# Altium schematic symbol library Schlib1.SchLib: 27 symbols
Pins are listed as number, name and electrical type; pins without a type are passive.

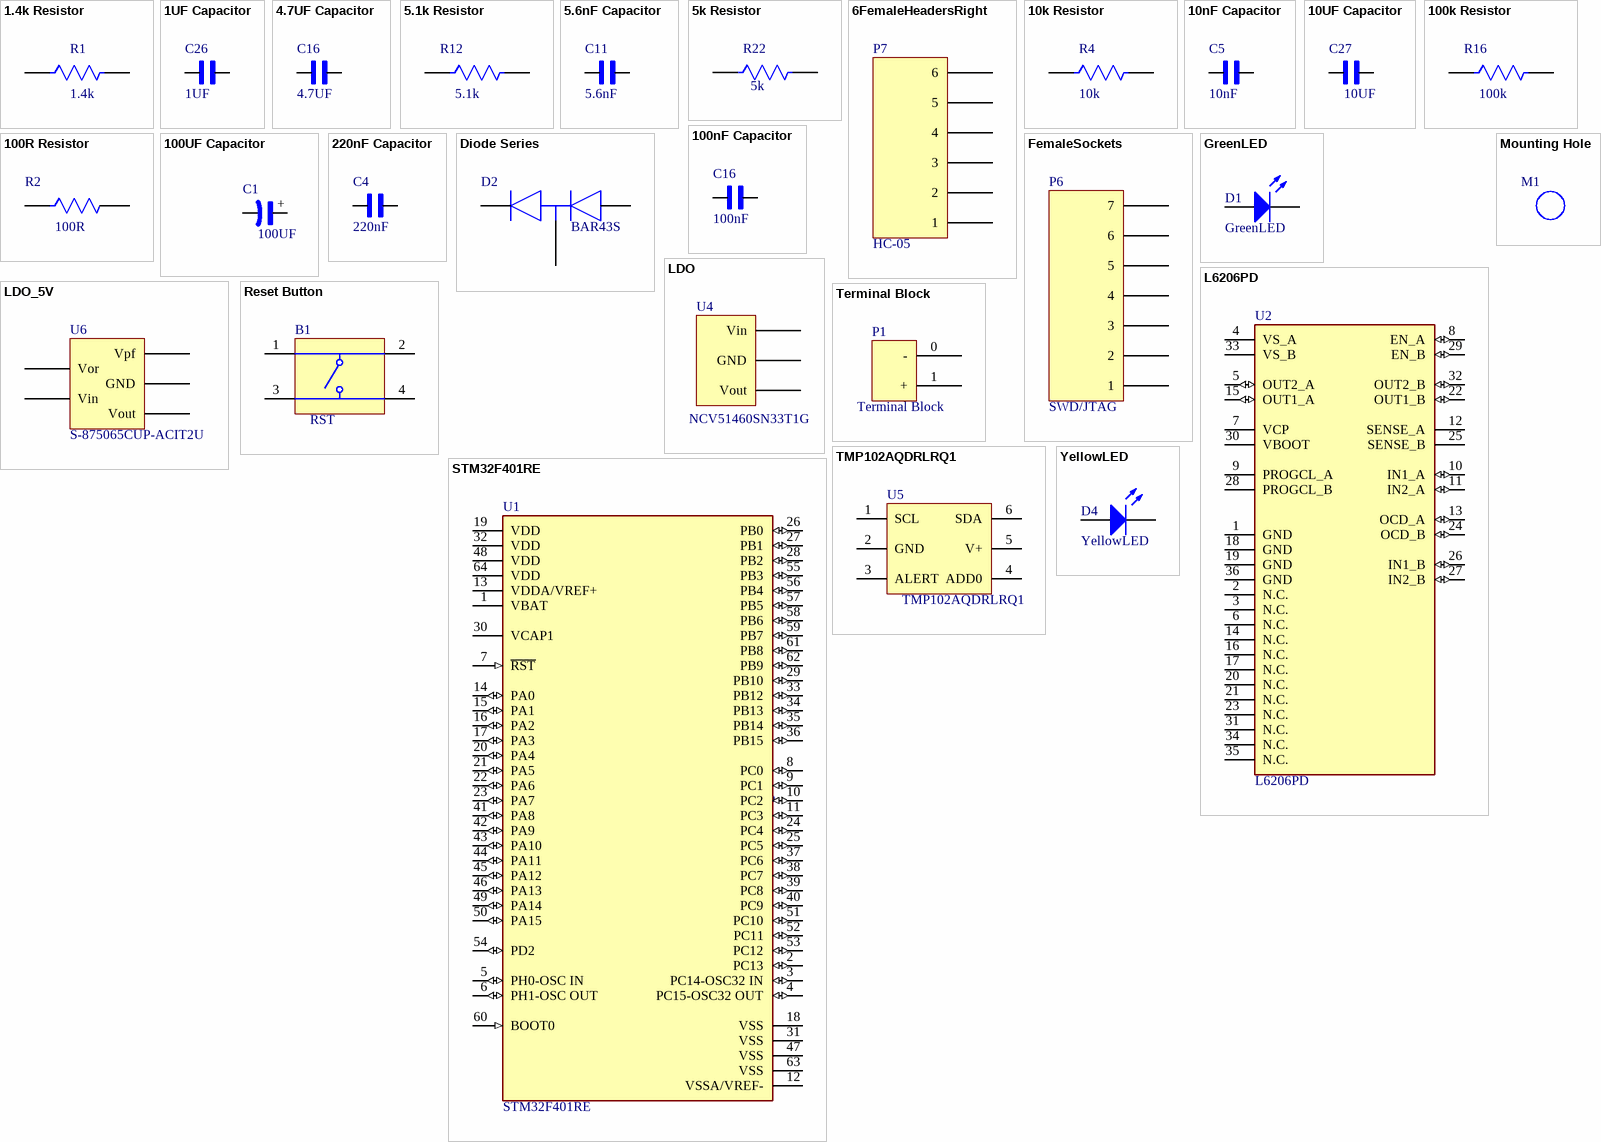
[diagram p0: symbols 1.4k Resistor to YellowLED]

## 1.4k Resistor
designator R1, comment 1.4k
RES SMD 14K OHM 0.1% 1/16W 0402; Manufacturer: Panasonic; Manufacturer Part Number: ERA-2AEB1402X; Resistance: 14kR; Power Rating: 63mW; Voltage Rating: 25V; Temperature Coefficient: 25ppm/°C; Voltage Rating (DC): 50V; Supplier 1: Digi-Key; RoHS: Yes; Category: Chip SMD Resistors; Stock 1: 3069; Pricing 1: 1=0.43000, 10=0.30500, 100=0.12220, 1000=0.06021, 2500=0.05579, 5000=0.05047 (USD); Mount: Surface Mount; Case/Package: 0402; Case Code (Metric): 1005; Case Code (Imperial): 0402; Contact Plating: Tin; Min Operating Temperature: -55°C; Max Operating Temperature: 155°C; Package Quantity: 10000; Packaging: Tape and Reel; Tolerance: 0.1%; Composition: Metal Film,Thin Film; Number of Terminations: 2; Max Power Dissipation: 63mW; Termination: SMD/SMT; Length: 0.039inch; Height: 0.016inch; Width: 0.5mm; Radiation Hardening: No; REACH SVHC: Unknown; Lead Free: Lead Free; ComponentLink1URL: https://datasheet.ciiva.com/9193/aoa0000ce26-9193279.pdf?src-supplier=Avnet; ComponentLink1Description: https://datasheet.ciiva.com/9193/aoa0000ce26-9193279.pdf?src-supplier=Avnet; Supplier Part Number 1: P14KDCCT-ND
footprint 0402 Resistor
pins: 1, 2

## 1UF Capacitor
designator C26, comment 1UF
Multilayer Ceramic Capacitors MLCC - SMD/SMT 1uF 6.3V X6S +/-10% 0402 Gen Purp; Manufacturer: Taiyo Yuden; Manufacturer Part Number: JMK105C6105KV-F; Tolerance: 10%; Supplier 1: Digi-Key; RoHS: Yes; Category: Ceramic Capacitors; Stock 1: 2218230; Pricing 1: 1=0.10000, 10=0.04200, 100=0.01860, 500=0.01328, 1000=0.01044, 2500=0.00949, 5000=0.00873 (USD); Mount: Surface Mount; Case/Package: 0402; Contact Plating: Tin; Case Code (Metric): 1005; Case Code (Imperial): 0402; Min Operating Temperature: -55°C; Max Operating Temperature: 105°C; Termination: SMD/SMT; Composition: Ceramic; Package Quantity: 10000; Packaging: Tape and Reel; Capacitance: 1uF; Voltage Rating: 6.3V; Voltage Rating (DC): 6.3V; Dielectric: X6S; Length: 1mm; Height: 0.5mm; Thickness: 0.022inch; Width: 0.02inch; Lead Free: Lead Free; Halogen Free: Halogen Free; ComponentLink1URL: https://datasheet.ciiva.com/30179/154jmk105c6105kv-f-30179507.pdf?src-supplier=Onlinecomponents.com; ComponentLink1Description: https://datasheet.ciiva.com/30179/154jmk105c6105kv-f-30179507.pdf?src-supplier=Onlinecomponents.com; ComponentLink2URL: https://datasheet.ciiva.com/24435/5jmk105c6105kv-f-24435453.pdf?src-supplier=Onlinecomponents.com; ComponentLink2Description: https://datasheet.ciiva.com/24435/5jmk105c6105kv-f-24435453.pdf?src-supplier=Onlinecomponents.com; ComponentLink3URL: https://datasheet.ciiva.com/18700/mlcc-all-e-18700341.pdf?src-supplier=Digi-Key; ComponentLink3Description: https://datasheet.ciiva.com/18700/mlcc-all-e-18700341.pdf?src-supplier=Digi-Key; ComponentLink4URL: https://datasheet.ciiva.com/18700/mlcc-all-e-18700342.pdf?src-supplier=Digi-Key; ComponentLink4Description: https://datasheet.ciiva.com/18700/mlcc-all-e-18700342.pdf?src-supplier=Digi-Key; ComponentLink5URL: https://datasheet.ciiva.com/18700/mlcc-all-e-18700343.pdf?src-supplier=Digi-Key; ComponentLink5Description: https://datasheet.ciiva.com/18700/mlcc-all-e-18700343.pdf?src-supplier=Digi-Key; Supplier Part Number 1: 587-3381-1-ND
footprint 0402 Capacitor
pins: 1, 2

## 4.7UF Capacitor
designator C16, comment 4.7UF
CAP CER 4.7UF 6.3V X5R 0402; Manufacturer: Murata; Manufacturer Part Number: GRM155R60J475ME47D; Tolerance: 20%; Supplier 1: Digi-Key; RoHS: Yes; Category: Ceramic Capacitors; Stock 1: 22068943; Pricing 1: 1=0.16000, 10=0.11600, 100=0.05450, 500=0.03822, 1000=0.03164, 2500=0.02944, 5000=0.02694 (USD); Mount: Surface Mount; Case/Package: 0402; Weight: 0.000212oz; Case Code (Metric): 1005; Case Code (Imperial): 0402; Contact Plating: Tin; Min Operating Temperature: -55°C; Max Operating Temperature: 85°C; Package Quantity: 10000; Capacitance: 4.7uF; Voltage Rating: 6.3V; Packaging: Tape and Reel; Dielectric: X5R; Termination: SMD/SMT; Voltage: 6.3V; Voltage Rating (DC): 6.3V; Length: 1mm; Height: 0.5mm; Width: 0.02inch; Thickness: 0.022inch; Depth: 0.5mm; REACH SVHC: No SVHC; Lead Free: Lead Free; ComponentLink1URL: https://datasheet.ciiva.com/6270/product-6270483.pdf?src-supplier=Digi-Key; ComponentLink1Description: https://datasheet.ciiva.com/6270/product-6270483.pdf?src-supplier=Digi-Key; ComponentLink2URL: https://datasheet.ciiva.com/6268/partnumbering-e-01-6268378.pdf?src-supplier=Digi-Key; ComponentLink2Description: https://datasheet.ciiva.com/6268/partnumbering-e-01-6268378.pdf?src-supplier=Digi-Key; ComponentLink3URL: https://datasheet.ciiva.com/46418/1769893-46418044.pdf?src-supplier=Element14; ComponentLink3Description: https://datasheet.ciiva.com/46418/1769893-46418044.pdf?src-supplier=Element14; ComponentLink4URL: https://datasheet.ciiva.com/46418/1769893-46418045.pdf?src-supplier=Element14; ComponentLink4Description: https://datasheet.ciiva.com/46418/1769893-46418045.pdf?src-supplier=Element14; ComponentLink5URL: https://datasheet.ciiva.com/6268/partnumbering-e-01-6268382.pdf?src-supplier=Digi-Key; ComponentLink5Description: https://datasheet.ciiva.com/6268/partnumbering-e-01-6268382.pdf?src-supplier=Digi-Key; Supplier Part Number 1: 490-5915-1-ND
footprint 0402 Capacitor
pins: 1, 2

## 5.1k Resistor
designator R12, comment 5.1k
PANASONIC - ERJ2RKF5101X - SMD Chip Resistor, 0402 [1005 Metric], 5.1 kohm, ERJ2R Series, 50 V, Thick Film, 100 mW; Manufacturer Part Number: ERJ-2RKF5101X; Resistance: 5.1kR; Tolerance: 1%; Power Rating: 100mW; Voltage Rating: 50V; Temperature Coefficient: 100ppm/°C; Supplier 1: Digi-Key; Manufacturer: Panasonic; RoHS: Yes; Category: Chip SMD Resistors; Stock 1: 1276231; Pricing 1: 1=0.10000, 10=0.04300, 100=0.01750, 1000=0.00787, 2500=0.00683, 5000=0.00564 (USD); Mount: Surface Mount; Case/Package: 0402; Weight: 2.8E-05oz; Case Code (Imperial): 0402; Case Code (Metric): 1005; Contact Plating: Tin; Min Operating Temperature: -55°C; Max Operating Temperature: 155°C; Packaging: Tape and Reel; Package Quantity: 10000; Composition: Thick Film; Termination: SMD/SMT; Number of Terminations: 2; Military Standard: Not; Max Power Dissipation: 100mW; Voltage Rating (DC): 50V; Length: 1mm; Height: 0.35mm; Width: 0.5mm; Depth: 0.5mm; REACH SVHC: No SVHC; Lead Free: Lead Free; ComponentLink1URL: https://datasheet.ciiva.com/11821/0900766b80f80784-11821351.pdf?src-supplier=RSComponents; ComponentLink1Description: https://datasheet.ciiva.com/11821/0900766b80f80784-11821351.pdf?src-supplier=RSComponents; ComponentLink2URL: https://datasheet.ciiva.com/16788/70260748-16788554.pdf?src-supplier=Allied+Electronics; ComponentLink2Description: https://datasheet.ciiva.com/16788/70260748-16788554.pdf?src-supplier=Allied+Electronics; ComponentLink3URL: https://datasheet.ciiva.com/16761/70260748-16761739.pdf?src-supplier=Allied+Electronics; ComponentLink3Description: https://datasheet.ciiva.com/16761/70260748-16761739.pdf?src-supplier=Allied+Electronics; ComponentLink4URL: https://datasheet.ciiva.com/9195/aoa0000ce2-9195580.pdf?src-supplier=Avnet; ComponentLink4Description: https://datasheet.ciiva.com/9195/aoa0000ce2-9195580.pdf?src-supplier=Avnet; ComponentLink5URL: https://datasheet.ciiva.com/43467/1678782-43467375.pdf?src-supplier=Farnell; ComponentLink5Description: https://datasheet.ciiva.com/43467/1678782-43467375.pdf?src-supplier=Farnell; Supplier Part Number 1: P5.10KLCT-ND
footprint 0402 Resistor
pins: 1, 2

## 5.6nF Capacitor
designator C11, comment 5.6nF
CAP CER 5600PF 25V X7R 0402; Manufacturer: Yageo; Manufacturer Part Number: CC0402KRX7R8BB562; Tolerance: 10%; Supplier 1: Digi-Key; RoHS: Yes; Category: Ceramic Capacitors; Stock 1: 20030; Pricing 1: 1=0.10000, 10=0.03600, 100=0.01620, 500=0.01156, 1000=0.00908, 2500=0.00825, 5000=0.00759 (USD); Mount: Surface Mount; Case/Package: 0402; Number of Pins: 2; Weight: 2.3E-05oz; Case Code (Imperial): 0402; Case Code (Metric): 1005; Min Operating Temperature: -55°C; Max Operating Temperature: 125°C; Voltage Rating: 25V; Capacitance: 5.6nF; Packaging: Tape and Reel; Voltage Rating (DC): 25V; Dielectric: X7R; Termination: SMD/SMT; Composition: Ceramic; Length: 0.039inch; Width: 0.02inch; Thickness: 0.022inch; Depth: 0.5mm; Lead Free: Lead Free; Halogen Free: Halogen Free; ComponentLink1URL: https://datasheet.ciiva.com/13264/upy-gphc-x7r-6-3v-to-50v-8-12304-13264955.pdf?src-supplier=Mouser; ComponentLink1Description: https://datasheet.ciiva.com/13264/upy-gphc-x7r-6-3v-to-50v-8-12304-13264955.pdf?src-supplier=Mouser; Supplier Part Number 1: 311-1718-1-ND
footprint 0402 Capacitor
pins: 1, 2

## 5k Resistor
designator R22, comment 5k
Res Thick Film 0805 5K Ohm 1% 1/8W ±100ppm/°C Molded SMD SMD Paper T/R; Manufacturer: Vishay Dale; Manufacturer Part Number: CRCW08055K00FKTA; Resistance: 5kR; Power Rating: 125mW; Voltage Rating: 150V; Supplier 1: Digi-Key; RoHS: Yes; Category: Chip SMD Resistors; Stock 1: 28646; Pricing 1: 1=0.13000, 10=0.11700, 100=0.04510, 1000=0.01984, 2500=0.01714 (USD); Case/Package: 0805; Number of Pins: 2; Weight: 0.000194oz; Case Code (Imperial): 0805; Case Code (Metric): 2012; Contact Plating: Tin,Lead; Min Operating Temperature: -55°C; Max Operating Temperature: 155°C; Tolerance: 1%; Packaging: Tape and Reel; Package Quantity: 5000; Resistor Type: Thick Film; Termination: SMD/SMT; Number of Terminations: 2; Temperature Coefficient: 100ppm/°C; Max Power Dissipation: 125mW; Voltage Rating (DC): 150V; Features: Automotive AEC-Q200; Length: 0.079inch; Width: 1.25mm; Height: 0.02inch; REACH SVHC: Unknown; Lead Free: Contains Lead; ComponentLink1URL: https://datasheet.ciiva.com/7112/1747955-7112385.pdf?src-supplier=Newark; ComponentLink1Description: https://datasheet.ciiva.com/7112/1747955-7112385.pdf?src-supplier=Newark; ComponentLink2URL: https://datasheet.ciiva.com/9069/dcrcw-9069004.pdf?src-supplier=Avnet; ComponentLink2Description: https://datasheet.ciiva.com/9069/dcrcw-9069004.pdf?src-supplier=Avnet; ComponentLink3URL: https://datasheet.ciiva.com/28561/1747955-28561708.pdf?src-supplier=Element14; ComponentLink3Description: https://datasheet.ciiva.com/28561/1747955-28561708.pdf?src-supplier=Element14; Supplier Part Number 1: 541-4321-1-ND
footprint 0805 Resistor
pins: 1, 2

## 6FemaleHeadersRight
designator P7, comment HC-05
CONN HDR 6POS 0.1 TIN PCB R/A; Manufacturer: Sullins; Manufacturer Part Number: PPTC061LGBN-RC; Number of Positions: 6; Connector Type: Header,Socket; Pitch: 0.1inch; Supplier 1: Digi-Key; RoHS: Yes; Category: Connectors; Stock 1: 8367; Pricing 1: 1=0.71000, 10=0.66400, 100=0.50920, 500=0.44280, 1000=0.36531, 5000=0.32103, 10000=0.31980 (USD); Mount: Through Hole; Contact Material: Bronze; Housing Color: Black; Color: Black; Contact Plating: Tin; Housing Material: Plastic; Termination: Solder; Package Quantity: 1000; Number of Rows: 1; Packaging: Bulk; Length: 15.7mm; Height: 2.4mm; Width: 8.5mm; Lead Free: Lead Free; ComponentLink1URL: https://media.digikey.com/pdf/Data%20Sheets/Sullins%20PDFs/Female_Headers.100_DS.pdf?src-supplier=Digi-Key; ComponentLink1Description: https://media.digikey.com/pdf/Data%20Sheets/Sullins%20PDFs/Female_Headers.100_DS.pdf?src-supplier=Digi-Key; Supplier Part Number 1: S5442-ND
footprint 6FemaleSocketHeaders
pins: 1, 2, 3, 4, 5, 6

## 10k Resistor
designator R4, comment 10k
Res Thin Film 0402 10K Ohm 0.5% 0.063W(1/16W) ±25ppm/C Molded SMD Automotive Punched T/R; Manufacturer: Panasonic; Manufacturer Part Number: ERA-2AED103X; Power Rating: 63mW; Voltage Rating: 25V; Resistance: 10kR; Temperature Coefficient: 25ppm/°C; Supplier 1: Digi-Key; RoHS: Yes; Category: Chip SMD Resistors; Stock 1: 133108; Pricing 1: 1=0.21000, 10=0.17900, 100=0.07000, 1000=0.02930, 2500=0.02686, 5000=0.02442 (USD); Mount: Surface Mount; Case/Package: 0402; Weight: 2.8E-05oz; Case Code (Imperial): 0402; Case Code (Metric): 1005; Contact Plating: Tin; Min Operating Temperature: -55°C; Max Operating Temperature: 155°C; Tolerance: 0.5%; Packaging: Tape and Reel; Package Quantity: 10000; Termination: SMD/SMT; Composition: Metal Film,Thin Film; Number of Terminations: 2; Military Standard: Not; Max Power Dissipation: 63mW; Voltage Rating (DC): 25V; Length: 1mm; Height: 0.016inch; Width: 0.5mm; Depth: 0.5mm; REACH SVHC: No SVHC; Lead Free: Lead Free; ComponentLink1URL: https://datasheet.ciiva.com/30240/54aoa0000ce26-30240474.pdf?src-supplier=Onlinecomponents.com; ComponentLink1Description: https://datasheet.ciiva.com/30240/54aoa0000ce26-30240474.pdf?src-supplier=Onlinecomponents.com; ComponentLink2URL: https://datasheet.ciiva.com/46378/1776116-46378235.pdf?src-supplier=Element14; ComponentLink2Description: https://datasheet.ciiva.com/46378/1776116-46378235.pdf?src-supplier=Element14; ComponentLink3URL: https://datasheet.ciiva.com/7830/1776116-7830919.pdf?src-supplier=Element14; ComponentLink3Description: https://datasheet.ciiva.com/7830/1776116-7830919.pdf?src-supplier=Element14; ComponentLink4URL: https://datasheet.ciiva.com/43470/1776116-43470437.pdf?src-supplier=Farnell; ComponentLink4Description: https://datasheet.ciiva.com/43470/1776116-43470437.pdf?src-supplier=Farnell; Supplier Part Number 1: P10KDECT-ND
footprint 0402 Resistor
pins: 1, 2

## 10nF Capacitor
designator C5, comment 10nF
CAP CER 10000PF 50V X7R 0402; Manufacturer: KEMET; Manufacturer Part Number: C0402C103M5RACTU; Dielectric Material: Ceramic; Tolerance: 20%; Dissipation Factor: 2.5%; Supplier 1: Digi-Key; RoHS: Yes; Category: Ceramic Capacitors; Stock 1: 104917; Pricing 1: 1=0.10000, 10=0.02200, 100=0.00990, 500=0.00708, 1000=0.00557, 2500=0.00506, 5000=0.00466 (USD); Mount: Surface Mount; Case/Package: 0402; Case Code (Metric): 1005; Case Code (Imperial): 0402; Min Operating Temperature: -55°C; Max Operating Temperature: 125°C; Capacitance: 10nF; Voltage Rating: 50V; Packaging: Tape and Reel; Package Quantity: 10000; Voltage Rating (DC): 50V; Dielectric: X7R; Termination: SMD/SMT; Length: 1mm; Height: 0.5mm; Width: 0.02inch; Thickness: 0.022inch; Lead Pitch: 0.3mm; Depth: 0.5mm; Radiation Hardening: No; ComponentLink1URL: https://datasheet.ciiva.com/18192/getdatasheetpartid-439437-18192407.pdf?src-supplier=Verical; ComponentLink1Description: https://datasheet.ciiva.com/18192/getdatasheetpartid-439437-18192407.pdf?src-supplier=Verical; ComponentLink2URL: https://datasheet.ciiva.com/5414/kem-c1002-x7r-smd-5414682.pdf?src-supplier=Mouser; ComponentLink2Description: https://datasheet.ciiva.com/5414/kem-c1002-x7r-smd-5414682.pdf?src-supplier=Mouser; Supplier Part Number 1: 399-7760-1-ND
footprint 0402 Capacitor
pins: 1, 2

## 10UF Capacitor
designator C27, comment 10UF
Ceramic capacitor SMD 0805 10 µF 16 V 10 %; Manufacturer: Samsung; Manufacturer Part Number: CL21A106KOQNNNG; Tolerance: 10%; Dielectric: X5R; Voltage: 16V; Supplier 1: Digi-Key; RoHS: Yes; Category: Ceramic Capacitors; Stock 1: 97074; Pricing 1: 1=0.11000, 10=0.07600, 50=0.04340, 100=0.03590, 500=0.02516, 1000=0.02083 (USD); Mount: Surface Mount; Case/Package: 0805; Case Code (Imperial): 0805; Case Code (Metric): 2012; Material: Ceramic; Min Operating Temperature: -55°C; Max Operating Temperature: 85°C; Capacitance: 10uF; Packaging: Tape and Reel; Package Quantity: 3000; Voltage Rating: 16V; Length: 2mm; Height: 1.25mm; Depth: 1.25mm; Width: 0.049inch; Thickness: 0.053inch; ComponentLink1URL: https://datasheet.ciiva.com/25730/cl21a106koqnnng-25730226.pdf?src-supplier=Digi-Key; ComponentLink1Description: https://datasheet.ciiva.com/25730/cl21a106koqnnng-25730226.pdf?src-supplier=Digi-Key; ComponentLink2URL: https://datasheet.ciiva.com/29199/454932-da-01-en-vs-kondensator-0805-29199423.pdf?src-supplier=Conrad; ComponentLink2Description: https://datasheet.ciiva.com/29199/454932-da-01-en-vs-kondensator-0805-29199423.pdf?src-supplier=Conrad; Supplier Part Number 1: 1276-6455-1-ND
footprint 0805 Capacitor
pins: 1, 2

## 100k Resistor
designator R16, comment 100k
YAGEO         RC0805FR-07100KL            RES, THICK FILM, 100K, 1%, 0.125W, 0805, REEL; Resistance: 100kR; Power Rating: 125mW; Temperature Coefficient: 100ppm/°C; Voltage Rating: 150V; Supplier 1: Digi-Key; Manufacturer: Yageo; Manufacturer Part Number: RC0805FR-07100KL; RoHS: Yes; Category: Chip SMD Resistors; Stock 1: 4441686; Pricing 1: 1=0.10000, 10=0.04000, 100=0.01630, 1000=0.00731, 2500=0.00635 (USD); Case/Package: 0805; Number of Pins: 2; Case Code (Metric): 2012; Case Code (Imperial): 0805; Min Operating Temperature: -55°C; Max Operating Temperature: 155°C; Tolerance: 1%; Packaging: Tape and Reel; Voltage Rating (DC): 150V; Package Quantity: 1; Composition: Thick Film; Number of Terminations: 2; Termination: SMD/SMT; Military Standard: Not; Max Power Dissipation: 125mW; Features: Moisture Resistant; Length: 2mm; Height: 0.024inch; Width: 0.049inch; Depth: 1.25mm; Lead Pitch: 0.4mm; REACH SVHC: Unknown; Lead Free: Lead Free; ComponentLink1URL: https://datasheet.ciiva.com/11808/0900766b8106beab-11808858.pdf?src-supplier=RSComponents; ComponentLink1Description: https://datasheet.ciiva.com/11808/0900766b8106beab-11808858.pdf?src-supplier=RSComponents; ComponentLink2URL: https://datasheet.ciiva.com/2457/pyu-r-int-thick-7-2457017.pdf?src-supplier=Digi-Key; ComponentLink2Description: https://datasheet.ciiva.com/2457/pyu-r-int-thick-7-2457017.pdf?src-supplier=Digi-Key; ComponentLink3URL: https://datasheet.ciiva.com/12667/rc0805-12667001.pdf?src-supplier=Mouser; ComponentLink3Description: https://datasheet.ciiva.com/12667/rc0805-12667001.pdf?src-supplier=Mouser; ComponentLink4URL: https://datasheet.ciiva.com/2457/pyu-r-int-thick-7-2457018.pdf?src-supplier=Digi-Key; ComponentLink4Description: https://datasheet.ciiva.com/2457/pyu-r-int-thick-7-2457018.pdf?src-supplier=Digi-Key; ComponentLink5URL: https://datasheet.ciiva.com/16747/rc0805-16747226.pdf?src-supplier=Future+Electronics; ComponentLink5Description: https://datasheet.ciiva.com/16747/rc0805-16747226.pdf?src-supplier=Future+Electronics; ComponentLink6URL: https://datasheet.ciiva.com/2457/pyu-r-int-thick-7-2457019.pdf?src-supplier=Digi-Key; ComponentLink6Description: https://datasheet.ciiva.com/2457/pyu-r-int-thick-7-2457019.pdf?src-supplier=Digi-Key; ComponentLink7URL: https://datasheet.ciiva.com/7660/38627-7660796.pdf?src-supplier=Element14; ComponentLink7Description: https://datasheet.ciiva.com/7660/38627-7660796.pdf?src-supplier=Element14; ComponentLink8URL: https://datasheet.ciiva.com/7941/1697719-7941676.pdf?src-supplier=Element14; ComponentLink8Description: https://datasheet.ciiva.com/7941/1697719-7941676.pdf?src-supplier=Element14; ComponentLink9URL: https://datasheet.ciiva.com/7941/1686128-7941677.pdf?src-supplier=Element14; ComponentLink9Description: https://datasheet.ciiva.com/7941/1686128-7941677.pdf?src-supplier=Element14; ComponentLink10URL: https://datasheet.ciiva.com/7941/1697719-7941678.pdf?src-supplier=Element14; ComponentLink10Description: https://datasheet.ciiva.com/7941/1697719-7941678.pdf?src-supplier=Element14; ComponentLink11URL: https://datasheet.ciiva.com/22747/444164-22747534.pdf?src-supplier=Element14; ComponentLink11Description: https://datasheet.ciiva.com/22747/444164-22747534.pdf?src-supplier=Element14; Supplier Part Number 1: 311-100KCRCT-ND
footprint 0805 Resistor
pins: 1, 2

## 100nF Capacitor
designator C16, comment 100nF
CAP CER 0.1UF 16V X7R 0402; Manufacturer: Murata; Manufacturer Part Number: GRM155R71C104KA88J; Tolerance: 10%; Supplier 1: Digi-Key; RoHS: Yes; Category: Ceramic Capacitors; Stock 1: 24888178; Pricing 1: 1=0.10000, 10=0.03800, 100=0.01680, 500=0.01198, 1000=0.00941, 2500=0.00855, 5000=0.00787 (USD); Mount: Surface Mount; Case/Package: 0402; Case Code (Metric): 1005; Case Code (Imperial): 0402; Min Operating Temperature: -55°C; Max Operating Temperature: 125°C; Package Quantity: 1; Capacitance: 100nF; Voltage Rating: 16V; Packaging: Tape and Reel; Dielectric: X7R; Voltage Rating (DC): 16V; Termination: SMD/SMT; Voltage: 16V; Length: 1mm; Height: 0.5mm; Width: 0.02inch; Thickness: 0.022inch; Depth: 0.5mm; Radiation Hardening: No; REACH SVHC: No SVHC; Lead Free: Lead Free; ComponentLink1URL: https://datasheet.ciiva.com/6271/product-6271168.pdf?src-supplier=Digi-Key; ComponentLink1Description: https://datasheet.ciiva.com/6271/product-6271168.pdf?src-supplier=Digi-Key; ComponentLink2URL: https://datasheet.ciiva.com/6271/grm155r71c104ka88-01-6271231.pdf?src-supplier=Digi-Key; ComponentLink2Description: https://datasheet.ciiva.com/6271/grm155r71c104ka88-01-6271231.pdf?src-supplier=Digi-Key; Supplier Part Number 1: 490-6328-1-ND
footprint 0402 Capacitor
pins: 1, 2

## 100R Resistor
designator R2, comment 100R
RESISTOR, SURGE, 0805, 1%, 100R; Manufacturer: Panasonic; Manufacturer Part Number: ERJ-P06F1000V; Power Rating: 500mW; Voltage Rating: 150V; Temperature Coefficient: 100ppm/°C; Supplier 1: Digi-Key; RoHS: Yes; Category: Chip SMD Resistors; Stock 1: 401308; Pricing 1: 1=0.17000, 10=0.14800, 100=0.05770, 1000=0.02416, 2500=0.02214 (USD); Mount: Surface Mount; Case/Package: 0805; Number of Pins: 2; Contact Plating: Tin; Case Code (Imperial): 0805; Case Code (Metric): 2012; Min Operating Temperature: -55°C; Max Operating Temperature: 155°C; Resistance: 100R; Tolerance: 1%; Packaging: Tape and Reel; Package Quantity: 5000; Termination: SMD/SMT; Military Standard: Not; Composition: Thick Film; Voltage Rating (DC): 150V; Length: 2mm; Height: 0.6mm; Width: 1.2mm; Depth: 1.25mm; Radiation Hardening: No; REACH SVHC: No SVHC; ComponentLink1URL: https://datasheet.ciiva.com/11817/0900766b812cb812-11817182.pdf?src-supplier=RSComponents; ComponentLink1Description: https://datasheet.ciiva.com/11817/0900766b812cb812-11817182.pdf?src-supplier=RSComponents; ComponentLink2URL: https://datasheet.ciiva.com/24070/aoa0000ce4-64075-24070038.pdf?src-supplier=Mouser; ComponentLink2Description: https://datasheet.ciiva.com/24070/aoa0000ce4-64075-24070038.pdf?src-supplier=Mouser; ComponentLink3URL: https://datasheet.ciiva.com/17208/aoa0000ce4-17208007.pdf?src-supplier=Avnet+Europe; ComponentLink3Description: https://datasheet.ciiva.com/17208/aoa0000ce4-17208007.pdf?src-supplier=Avnet+Europe; ComponentLink4URL: https://datasheet.ciiva.com/30103/aoa0000ce4-30103141.pdf?src-supplier=Onlinecomponents.com; ComponentLink4Description: https://datasheet.ciiva.com/30103/aoa0000ce4-30103141.pdf?src-supplier=Onlinecomponents.com; ComponentLink5URL: https://datasheet.ciiva.com/48426/erjp-series-eng-tds-48426777.pdf?src-supplier=Distrelec; ComponentLink5Description: https://datasheet.ciiva.com/48426/erjp-series-eng-tds-48426777.pdf?src-supplier=Distrelec; ComponentLink6URL: https://datasheet.ciiva.com/9186/aoa0000ce4-9186922.pdf?src-supplier=Avnet; ComponentLink6Description: https://datasheet.ciiva.com/9186/aoa0000ce4-9186922.pdf?src-supplier=Avnet; ComponentLink7URL: https://datasheet.ciiva.com/22758/1801181-22758282.pdf?src-supplier=Farnell; ComponentLink7Description: https://datasheet.ciiva.com/22758/1801181-22758282.pdf?src-supplier=Farnell; ComponentLink8URL: https://datasheet.ciiva.com/22758/1801181-22758283.pdf?src-supplier=Farnell; ComponentLink8Description: https://datasheet.ciiva.com/22758/1801181-22758283.pdf?src-supplier=Farnell; ComponentLink9URL: https://datasheet.ciiva.com/7830/1790600-7830815.pdf?src-supplier=Element14; ComponentLink9Description: https://datasheet.ciiva.com/7830/1790600-7830815.pdf?src-supplier=Element14; Supplier Part Number 1: P16057CT-ND
footprint 0805 Resistor
pins: 1, 2

## 100UF Capacitor
designator C1, comment 100UF
Nichicon Aluminium Electrolytic Capacitor 100F 63 V 10mm Through Hole series VZ lifetime 1000h; Manufacturer Part Number: UVZ1J101MPD1TD; Voltage Rating (DC): 63V; Ripple Current: 215mA; Tolerance: 20%; Leakage Current: 189uA; Life (Hours): 1000Hour; Lead/Base Style: Straight; Dissipation Factor: 0.1%; Lead Diameter: 0.6mm; Supplier 1: Digi-Key; Manufacturer: Nichicon; RoHS: Yes; Category: Aluminum Electrolytic Capacitors; Stock 1: 4350; Pricing 1: 1=0.42000, 10=0.29000, 100=0.17420 (USD); Mount: Through Hole,PCB; Case/Package: Radial; Min Operating Temperature: -55°C; Max Operating Temperature: 105°C; Capacitance: 100uF; Voltage Rating: 63V; Termination: Radial; Package Quantity: 500; Packaging: Tape and Reel; Voltage: 63V; Diameter: 10mm; Length: 12.5mm; Height: 12.5mm; Lead Pitch: 5mm; Height - Seated (Max): 0.551inch; Lead Free: Lead Free; REACH SVHC: No SVHC; ComponentLink1URL: https://datasheet.ciiva.com/46393/1909357-46393465.pdf?src-supplier=Element14; ComponentLink1Description: https://datasheet.ciiva.com/46393/1909357-46393465.pdf?src-supplier=Element14; ComponentLink2URL: https://datasheet.ciiva.com/7907/e-vz-7907564.pdf?src-supplier=Element14; ComponentLink2Description: https://datasheet.ciiva.com/7907/e-vz-7907564.pdf?src-supplier=Element14; ComponentLink3URL: https://datasheet.ciiva.com/29546/e-vz-29546636.pdf?src-supplier=Digi-Key; ComponentLink3Description: https://datasheet.ciiva.com/29546/e-vz-29546636.pdf?src-supplier=Digi-Key; ComponentLink4URL: https://datasheet.ciiva.com/29546/e-vz-29546635.pdf?src-supplier=Digi-Key; ComponentLink4Description: https://datasheet.ciiva.com/29546/e-vz-29546635.pdf?src-supplier=Digi-Key; Supplier Part Number 1: 493-13479-1-ND
footprint 100UF
pins: 1, +

## 220nF Capacitor
designator C4, comment 220nF
CAP CER 0805 220NF 100V X7R; Manufacturer: KEMET; Manufacturer Part Number: C0805C224K1RECAUTO; Tolerance: 10%; Supplier 1: Digi-Key; RoHS: No; Category: Ceramic Capacitors; Stock 1: 6983; Pricing 1: 1=0.30000, 10=0.20400, 100=0.11580, 500=0.08172, 1000=0.07151 (USD); Mount: Surface Mount; Case/Package: 0805; Min Operating Temperature: -55°C; Max Operating Temperature: 125°C; Packaging: Cut Tape; Capacitance: 220nF; Voltage Rating: 100V; Ratings: AEC-Q200; ComponentLink1URL: https://api.kemet.com/component-edge/download/datasheet/C0805C224K1RECAUTO.pdf?src-supplier=Digi-Key; ComponentLink1Description: https://api.kemet.com/component-edge/download/datasheet/C0805C224K1RECAUTO.pdf?src-supplier=Digi-Key; Supplier Part Number 1: 399-17890-1-ND
footprint 0805 Capacitor
pins: 1, 2

## Diode Series
designator D2, comment BAR43S
STMICROELECTRONICS - BAR43SFILM - Small Signal Schottky Diode, Dual Series, 30 V, 100 mA, 330 mV, 750 mA, 150 C RoHS Compliant: Yes; Max Surge Current: 750mA; Forward Voltage: 1V; Forward Current: 100mA; Peak Reverse Current: 500nA; Recovery Time: 5ns; Max Repetitive Reverse Voltage (Vrrm): 30V; Power Dissipation: 250mW; Capacitance: 7pF; Supplier 1: Digi-Key; Manufacturer: STMicroelectronics; Manufacturer Part Number: BAR43SFILM; RoHS: Yes; Category: Rectifier Diodes; Stock 1: 25965; Pricing 1: 1=0.37000, 10=0.29900, 25=0.25040, 100=0.12230, 250=0.12036, 500=0.10202, 1000=0.07089 (USD); Mount: Surface Mount; Case/Package: SOT-23; Number of Pins: 3; Weight: 0.01lb; Min Operating Temperature: -65°C; Max Operating Temperature: 150°C; Packaging: Tape and Reel; Package Quantity: 3000; Max Reverse Leakage Current: 500nA; Average Rectified Current: 100mA; Reverse Recovery Time: 5ns; Peak Non-Repetitive Surge Current: 750mA; Max Forward Surge Current (Ifsm): 750mA; Termination: SMD/SMT; Element Configuration: Dual; Current Rating: 100mA; Voltage Rating (DC): 30V; Max Reverse Voltage (DC): 30V; Length: 2.9mm; Height: 0.95mm; Width: 3.05mm; Radiation Hardening: No; REACH SVHC: No SVHC; Lead Free: Lead Free; ComponentLink1URL: https://datasheet.ciiva.com/1177/1700360-1177600.pdf?src-supplier=Element14; ComponentLink1Description: https://datasheet.ciiva.com/1177/1700360-1177600.pdf?src-supplier=Element14; ComponentLink2URL: https://datasheet.ciiva.com/4714/cd00000764-105363-4714418.pdf?src-supplier=Mouser; ComponentLink2Description: https://datasheet.ciiva.com/4714/cd00000764-105363-4714418.pdf?src-supplier=Mouser; ComponentLink3URL: https://datasheet.ciiva.com/34301/924342-34301780.pdf?src-supplier=Jameco; ComponentLink3Description: https://datasheet.ciiva.com/34301/924342-34301780.pdf?src-supplier=Jameco; ComponentLink4URL: https://datasheet.ciiva.com/905/cd00000764-905875.pdf?src-supplier=Digi-Key; ComponentLink4Description: https://datasheet.ciiva.com/905/cd00000764-905875.pdf?src-supplier=Digi-Key; ComponentLink5URL: https://datasheet.ciiva.com/905/cd00000764-905876.pdf?src-supplier=Digi-Key; ComponentLink5Description: https://datasheet.ciiva.com/905/cd00000764-905876.pdf?src-supplier=Digi-Key; ComponentLink6URL: https://datasheet.ciiva.com/905/cd00000764-905877.pdf?src-supplier=Digi-Key; ComponentLink6Description: https://datasheet.ciiva.com/905/cd00000764-905877.pdf?src-supplier=Digi-Key; ComponentLink7URL: https://datasheet.ciiva.com/7964/1700360-7964102.pdf?src-supplier=Element14; ComponentLink7Description: https://datasheet.ciiva.com/7964/1700360-7964102.pdf?src-supplier=Element14; ComponentLink8URL: https://datasheet.ciiva.com/1200/1700360-1200008.pdf?src-supplier=Farnell; ComponentLink8Description: https://datasheet.ciiva.com/1200/1700360-1200008.pdf?src-supplier=Farnell; ComponentLink9URL: https://datasheet.ciiva.com/1199/1700360-1199962.pdf?src-supplier=Farnell; ComponentLink9Description: https://datasheet.ciiva.com/1199/1700360-1199962.pdf?src-supplier=Farnell; ComponentLink10URL: https://datasheet.ciiva.com/15144/getdatasheetpartid-39351-15144075.pdf?src-supplier=Verical; ComponentLink10Description: https://datasheet.ciiva.com/15144/getdatasheetpartid-39351-15144075.pdf?src-supplier=Verical; ComponentLink11URL: https://datasheet.ciiva.com/16226/cd00000764-16226780.pdf?src-supplier=Future+Electronics; ComponentLink11Description: https://datasheet.ciiva.com/16226/cd00000764-16226780.pdf?src-supplier=Future+Electronics; ComponentLink12URL: https://datasheet.ciiva.com/27746/47-2902e-27746700.pdf?src-supplier=Rapid+Electronics; ComponentLink12Description: https://datasheet.ciiva.com/27746/47-2902e-27746700.pdf?src-supplier=Rapid+Electronics; Supplier Part Number 1: 497-2515-1-ND
footprint Double Diode
pins: 1 A2, 2 K1, 3

## FemaleSockets
designator P6, comment SWD/JTAG
CONN RCPT .100" 7POS TIN PCB; Manufacturer: Samtec; Manufacturer Part Number: SSA-107-S-T; Gender: Female; Number of Positions: 7; Max Current Rating: 1A; Connector Type: Receptacle; Contact Resistance: 10mR; Max Voltage Rating (AC): 1kV; Pitch: 2.54mm; Supplier 1: Digi-Key; RoHS: Yes; Category: Connectors; Stock 1: 63; Pricing 1: 1=0.73000, 10=0.68500, 25=0.61680, 50=0.54820, 100=0.52530, 250=0.47960, 500=0.45676 (USD); Mount: Through Hole; Housing Color: Black; Housing Material: Polyethylene; Color: Black; Contact Plating: Tin; Contact Material: Bronze; Min Operating Temperature: -55°C; Max Operating Temperature: 105°C; Termination: Solder; Number of Contacts: 7; Package Quantity: 1; Number of Rows: 1; Packaging: Bulk; Orientation: Straight; Length: 17.78mm; Width: 2.54mm; Depth: 2.54mm; Radiation Hardening: No; Lead Free: Lead Free; Flammability Rating: UL94 V-0; ComponentLink1URL: https://datasheet.ciiva.com/413/ssas-mkt-413352.pdf?src-supplier=Digi-Key; ComponentLink1Description: https://datasheet.ciiva.com/413/ssas-mkt-413352.pdf?src-supplier=Digi-Key; ComponentLink2URL: https://datasheet.ciiva.com/10323/ssa-10323769.pdf?src-supplier=Avnet; ComponentLink2Description: https://datasheet.ciiva.com/10323/ssa-10323769.pdf?src-supplier=Avnet; ComponentLink3URL: https://datasheet.ciiva.com/26825/getdatasheetpartid-51286-26825370.pdf?src-supplier=Verical; ComponentLink3Description: https://datasheet.ciiva.com/26825/getdatasheetpartid-51286-26825370.pdf?src-supplier=Verical; ComponentLink4URL: https://datasheet.ciiva.com/16720/ssa-16720191.pdf?src-supplier=Avnet+Europe; ComponentLink4Description: https://datasheet.ciiva.com/16720/ssa-16720191.pdf?src-supplier=Avnet+Europe; Supplier Part Number 1: SAM1122-07-ND
footprint FemaleSocketHeaders
pins: 1, 2, 3, 4, 5, 6, 7

## GreenLED
designator D1
LED GREEN CLEAR SMD; Manufacturer: Lumex; Manufacturer Part Number: SML-LXFP0603SUGCTR; Lens Color: Colorless; Power Rating: 30mW; Reverse Voltage (DC): 5V; Wavelength: 574nm; Test Current: 5mA; Forward Voltage: 2V; Luminous Intensity: 13mcd; Viewing Angle: 130°; Lens Style: Rectangular; Supplier 1: Digi-Key; RoHS: Yes; Category: LEDs; Stock 1: 9865; Pricing 1: 1=0.43000, 10=0.30000, 100=0.17500, 500=0.12000, 1000=0.10000 (USD); Mount: Surface Mount; Case/Package: 0603; Case Code (Imperial): 0603; Color: Green; Case Code (Metric): 1608; Min Operating Temperature: -40°C; Max Operating Temperature: 85°C; Lens Transparency: Clear; Illumination Color: Green; Forward Current: 5mA; Packaging: Tape and Reel; Package Quantity: 3000; Length: 1.6mm; Height: 0.2mm; Width: 0.8mm; ComponentLink1URL: https://datasheet.ciiva.com/24152/sml-lxfp0603sugctr-272463-24152468.pdf?src-supplier=Mouser; ComponentLink1Description: https://datasheet.ciiva.com/24152/sml-lxfp0603sugctr-272463-24152468.pdf?src-supplier=Mouser; ComponentLink2URL: https://datasheet.ciiva.com/29559/sml-lxfp0603sugctr-29559740.pdf?src-supplier=Digi-Key; ComponentLink2Description: https://datasheet.ciiva.com/29559/sml-lxfp0603sugctr-29559740.pdf?src-supplier=Digi-Key; Supplier Part Number 1: 67-2222-1-ND
footprint LED
pins: 1 A, 2 K

## L6206PD
designator U2  Supplier Part Number 1: 497-5341-5-ND
Bridge Driver IC PowerSO-36, L6206PD, ST; Manufacturer: STMicroelectronics; Min Supply Voltage: 8V; Operating Supply Voltage: 48V; Max Supply Voltage: 52V; Number of Outputs: 4; Output Current: 2.8A; Max Output Current: 5.6A; On-State Resistance: 300mR; Operating Supply Current: 5mA; Rise Time: 250ns; Release Time: 550ns; Motor Type: Brushed; Supplier 1: Digi-Key; Manufacturer Part Number: L6206PD; RoHS: Yes; Category: Motor Drivers; Stock 1: 6312; Pricing 1: 1=6.49000, 10=5.85900, 25=5.58640, 100=4.63250, 250=4.22376, 500=3.95126, 1000=3.54250, 2500=3.40625, 5000=3.35175 (USD); Mount: Surface Mount; Case/Package: SOIC; Number of Pins: 36; Min Operating Temperature: -25°C; Max Operating Temperature: 125°C; Package Quantity: 31; Packaging: Rail/Tube; Output Voltage: 52V; Output Current per Channel: 2.8A; Max Collector Current: 2.8A; Collector Emitter Voltage (VCEO): 52V; Length: 16mm; Height: 3.3mm; Width: 11.1mm; Radiation Hardening: No; REACH SVHC: No SVHC; ComponentLink1URL: https://datasheet.ciiva.com/15109/getdatasheetpartid-189010-15109428.pdf?src-supplier=Verical; ComponentLink1Description: https://datasheet.ciiva.com/15109/getdatasheetpartid-189010-15109428.pdf?src-supplier=Verical; ComponentLink2URL: https://datasheet.ciiva.com/19477/1470178-19477478.pdf?src-supplier=Jameco; ComponentLink2Description: https://datasheet.ciiva.com/19477/1470178-19477478.pdf?src-supplier=Jameco; ComponentLink3URL: https://datasheet.ciiva.com/26880/l6206pd-26880436.pdf?src-supplier=IIIC; ComponentLink3Description: https://datasheet.ciiva.com/26880/l6206pd-26880436.pdf?src-supplier=IIIC; ComponentLink4URL: https://datasheet.ciiva.com/1957/cd00002346-1957105.pdf?src-supplier=Digi-Key; ComponentLink4Description: https://datasheet.ciiva.com/1957/cd00002346-1957105.pdf?src-supplier=Digi-Key; ComponentLink5URL: https://datasheet.ciiva.com/16370/cd00002346-16370975.pdf?src-supplier=Future+Electronics; ComponentLink5Description: https://datasheet.ciiva.com/16370/cd00002346-16370975.pdf?src-supplier=Future+Electronics
footprint L6206PD
pins: 1 GND (power), 2 N.C. (power), 3 N.C. (power), 4 VS_A (power), 5 OUT2_A (io), 6 N.C. (power), 7 VCP (power), 8 EN_A (io), 9 PROGCL_A (power), 10 IN1_A (io), 11 IN2_A (io), 12 SENSE_A (power), 13 OCD_A (io), 14 N.C. (power), 15 OUT1_A (io), 16 N.C. (power), 17 N.C. (power), 18 GND (power), 19 GND (power), 20 N.C. (power), 21 N.C. (power), 22 OUT1_B (io), 23 N.C. (power), 24 OCD_B (io), 25 SENSE_B (power), 26 IN1_B (io), 27 IN2_B (io), 28 PROGCL_B (power), 29 EN_B (io), 30 VBOOT (power), 31 N.C. (power), 32 OUT2_B (io), 33 VS_B (power), 34 N.C. (power), 35 N.C. (power), 36 GND (power)

## LDO
designator U4, comment NCV51460SN33T1G
V-Ref Precision 3.3V 20mA Automotive 3-Pin SOT-23 T/R; Manufacturer: ON Semiconductor; Output Type: Fixed; Output Configuration: Positive; Number of Regulators: 1; Max Input Voltage: 28V; Dropout Voltage: 1.4V; Quiescent Current: 200uA; Max Supply Current: 220uA; Supplier 1: Digi-Key; Manufacturer Part Number: NCV51460SN33T1G; RoHS: No; Category: Voltage References; Stock 1: 3394; Pricing 1: 1=0.95000, 10=0.84800, 25=0.80520, 100=0.61810, 250=0.54624, 500=0.51750, 1000=0.40250 (USD); Mount: Surface Mount; Case/Package: TO-236-3; Min Operating Temperature: -40°C; Max Operating Temperature: 125°C; Packaging: Cut Tape; Min Output Voltage: 3.3V; Output Current: 20mA; ComponentLink1URL: https://media.digikey.com/pdf/Data%20Sheets/ON%20Semiconductor%20PDFs/NCV51460_Web.pdf?src-supplier=Digi-Key; ComponentLink1Description: https://media.digikey.com/pdf/Data%20Sheets/ON%20Semiconductor%20PDFs/NCV51460_Web.pdf?src-supplier=Digi-Key; ComponentLink2URL: http://www.farnell.com/datasheets/2585557.pdf?src-supplier=Farnell; ComponentLink2Description: http://www.farnell.com/datasheets/2585557.pdf?src-supplier=Farnell; Supplier Part Number 1: NCV51460SN33T1GOSCT-ND
footprint LDO
pins: ?1 Vin (power), ?2 GND (power), ?3 Vout (power)

## LDO_5V
designator U6, comment S-875065CUP-ACIT2U
Linear Regulator Positive 5V 4.5mA 5-Pin SOT-89 T/R; Manufacturer: ABLIC; Supplier 1: Digi-Key; Manufacturer Part Number: S-875065CUP-ACIT2U; Stock 1: 100; Pricing 1: 1=1.06000, 10=0.94400, 25=0.89600, 100=0.68800 (USD); Supplier Part Number 1: 1662-2067-1-ND
footprint SOT-89-5
pins: ?1 Vpf (power), ?2 GND (power), ?3 Vout (power), ?4 Vin (power), ?5 Vor (power)

## Mounting Hole
designator M1  (value not drawn)

## Reset Button
designator B1, comment RST
SWITCH TACTILE SPST-NO 0.05A 24V; Manufacturer: TE Connectivity Alcoswitch; Manufacturer Part Number: 1825910-6; Mechanical Life: 100000Cycles; Actuator Material: PBT; Max Current Rating: 50mA; Throw Configuration: SPST; Operating Force: 160gf; Contact Resistance: 100mR; Illumination Type: Non-Illuminated,Illuminated; Switch Travel: 0.25mm; Switch Function: Off-Mom; Actuator Type: Standard; Actuator Length: 0.055inch; Supplier 1: Digi-Key; RoHS: Yes; Category: Pushbutton Switches; Stock 1: 8444; Pricing 1: 1=0.10000, 10=0.10100, 25=0.09560, 100=0.08700, 250=0.08180, 500=0.07484, 1000=0.06265, 2500=0.06092, 5000=0.05743 (USD); Mount: Through Hole; Contact Material: Copper Alloy; Contact Plating: Silver; Min Operating Temperature: -35°C; Max Operating Temperature: 85°C; Package Quantity: 750; Packaging: Loose Piece; Max Voltage Rating (DC): 24V; Termination: PC Pins; Electrical Life: 100000Cycles; Orientation: Straight; Contact Current Rating: 50mA; Type: Switch; Length: 5.99mm; Lead Free: Lead Free; REACH SVHC: Unknown; ELV: Compliant; ComponentLink1URL: https://datasheet.ciiva.com/30199/1825910-6rqpn1825910-6-30199520.pdf?src-supplier=Onlinecomponents.com; ComponentLink1Description: https://datasheet.ciiva.com/30199/1825910-6rqpn1825910-6-30199520.pdf?src-supplier=Onlinecomponents.com; ComponentLink2URL: https://datasheet.ciiva.com/15184/getdatasheetpartid-395915-15184509.pdf?src-supplier=Verical; ComponentLink2Description: https://datasheet.ciiva.com/15184/getdatasheetpartid-395915-15184509.pdf?src-supplier=Verical; Supplier Part Number 1: 450-1650-ND
footprint ResetButton (Switch, 4-Leads, Body 5.99x5.99mm)
pins: 1, 2, 3, 4

## STM32F401RE
designator U1  Supplier Part Number 1: 497-17429-ND
ARM Microcontrollers - MCU 16/32-BITS MICROS; Manufacturer: STMicroelectronics; Manufacturer Part Number: STM32F401RET6; Min Supply Voltage: 1.7V; Max Supply Voltage: 3.6V; RAM Size: 96KB; Max Power Dissipation: 313mW; Interface: I2C,SPI,USB,IrDA,SDIO,UART,USART,LIN,I2S; Number of I/Os: 50; Number of Timers/Counters: 8; Frequency: 84MHz; Oscillator Type: Internal; Data Bus Width: 32b; Watchdog Timer: Yes; Memory Type: FLASH; Memory Size: 512KB; Peripherals: Brown-out Detect/Reset,POR,PWM,WDT,DMA; Operating Supply Voltage: 3.3V; Supplier 1: Digi-Key; RoHS: Yes; Category: Microcontrollers; Stock 1: 2313; Pricing 1: 1=6.43000, 10=5.80700, 25=5.53680, 100=4.80740, 250=4.59136, 500=4.18624, 1000=3.64608, 2500=3.51104, 5000=3.37600 (USD); Case/Package: LQFP; Number of Pins: 64; Weight: 0.012088oz; Min Operating Temperature: -40°C; Max Operating Temperature: 85°C; Packaging: Tray; Number of Programmable I/O: 50; Max Frequency: 84MHz; Package Quantity: 960; Core Architecture: ARM; Radiation Hardening: No; REACH SVHC: No SVHC; Lead Free: Lead Free; ComponentLink1URL: http://www.farnell.com/datasheets/1899788.pdf?src-supplier=Farnell; ComponentLink1Description: http://www.farnell.com/datasheets/1899788.pdf?src-supplier=Farnell; ComponentLink2URL: http://www.mouser.com/ds/2/389/stm32f401re-956236.pdf?src-supplier=Mouser; ComponentLink2Description: http://www.mouser.com/ds/2/389/stm32f401re-956236.pdf?src-supplier=Mouser; ComponentLink3URL: http://www.farnell.com/datasheets/1899788.pdf?src-supplier=Element14; ComponentLink3Description: http://www.farnell.com/datasheets/1899788.pdf?src-supplier=Element14; ComponentLink4URL: http://www.st.com/st-web-ui/static/active/en/resource/technical/document/datasheet/DM00102166.pdf?src-supplier=Avnet; ComponentLink4Description: http://www.st.com/st-web-ui/static/active/en/resource/technical/document/datasheet/DM00102166.pdf?src-supplier=Avnet; ComponentLink5URL: http://www.st.com/content/ccc/resource/technical/document/errata_sheet/df/f5/fd/26/37/db/42/2b/DM00095523.pdf/files/DM00095523.pdf/jcr:content/translations/en.DM00095523.pdf?src-supplier=Digi-Key; ComponentLink5Description: http://www.st.com/content/ccc/resource/technical/document/errata_sheet/df/f5/fd/26/37/db/42/2b/DM00095523.pdf/files/DM00095523.pdf/jcr:content/translations/en.DM00095523.pdf?src-supplier=Digi-Key; ComponentLink6URL: http://www.farnell.com/datasheets/1899788.pdf?src-supplier=Newark; ComponentLink6Description: http://www.farnell.com/datasheets/1899788.pdf?src-supplier=Newark
footprint STM32F401RE
pins: 1 VBAT (power), 2 PC13 (io), 3 PC14-OSC32 IN (io), 4 PC15-OSC32 OUT (io), 5 PH0-OSC IN (io), 6 PH1-OSC OUT (io), 7 ~{RST} (in), 8 PC0 (io), 9 PC1 (io), 10 PC2 (io), 11 PC3 (io), 12 VSSA/VREF- (power), 13 VDDA/VREF+ (power), 14 PA0 (io), 15 PA1 (io), 16 PA2 (io), 17 PA3 (io), 18 VSS (power), 19 VDD (power), 20 PA4 (io), 21 PA5 (io), 22 PA6 (io), 23 PA7 (io), 24 PC4 (io), 25 PC5 (io), 26 PB0 (io), 27 PB1 (io), 28 PB2 (io), 29 PB10 (io), 30 VCAP1 (power), 31 VSS (power), 32 VDD (power), 33 PB12 (io), 34 PB13 (io), 35 PB14 (io), 36 PB15 (io), 37 PC6 (io), 38 PC7 (io), 39 PC8 (io), 40 PC9 (io), 41 PA8 (io), 42 PA9 (io), 43 PA10 (io), 44 PA11 (io), 45 PA12 (io), 46 PA13 (io), 47 VSS (power), 48 VDD (power), 49 PA14 (io), 50 PA15 (io), 51 PC10 (io), 52 PC11 (io), 53 PC12 (io), 54 PD2 (io), 55 PB3 (io), 56 PB4 (io), 57 PB5 (io), 58 PB6 (io), 59 PB7 (io), 60 BOOT0 (in), 61 PB8 (io), 62 PB9 (io), 63 VSS (power), 64 VDD (power)

## Terminal Block
designator P1
Conn Terminal Blocks 2 POS 5mm Solder ST Thru-Hole 16A; Manufacturer: Phoenix Contact; Manufacturer Part Number: 1935161; Connector Type: Screw; Voltage Rating (DC): 320V; Max Supply Voltage: 250V; Current Rating: 17.5A; Number of Poles: 2; Number of Levels: 1; Current: 18A; Voltage: 300V; Wire Gauge (Max): 26AWG; Wire Gauge (Min): 12AWG; Approvals: UL; Supplier 1: Digi-Key; RoHS: Yes; Category: Terminal Blocks; Stock 1: 54304; Pricing 1: 1=0.43000, 10=0.41100, 50=0.39280, 100=0.38200, 250=0.35700, 500=0.32844, 1000=0.30350 (USD); Mount: Through Hole; Number of Pins: 2; Weight: 0.067021oz; Contact Material: Copper,Tin; Insulation Material: Nylon; Housing Material: Polyamide; Housing Color: Green; Color: Green; Material: Nylon; Number of Rows: 1; Max Current Rating: 16A; Voltage Rating: 250V; Package Quantity: 250; Packaging: Bulk; Number of Positions: 2; Number of Positions Per Level: 2; Termination: Solder; Number of Contacts: 2; Number of Circuits: 2; Orientation: Straight; Length: 9mm; Height: 11.3mm; Width: 14.9mm; Pitch: 5mm; Depth: 9mm; Wire/Cable Gauge: 26AWG; Radiation Hardening: No; Flammability Rating: UL94 V-0; Lead Free: Lead Free; REACH SVHC: Unknown; ComponentLink1URL: https://datasheet.ciiva.com/15169/getdatasheetpartid-177903-15169663.pdf?src-supplier=Verical; ComponentLink1Description: https://datasheet.ciiva.com/15169/getdatasheetpartid-177903-15169663.pdf?src-supplier=Verical; ComponentLink2URL: https://datasheet.ciiva.com/16047/1935161-16047247.pdf?src-supplier=Onlinecomponents.com; ComponentLink2Description: https://datasheet.ciiva.com/16047/1935161-16047247.pdf?src-supplier=Onlinecomponents.com; ComponentLink3URL: https://datasheet.ciiva.com/824/combiconcompact5-0mmseries-824222.pdf?src-supplier=Digi-Key; ComponentLink3Description: https://datasheet.ciiva.com/824/combiconcompact5-0mmseries-824222.pdf?src-supplier=Digi-Key; Supplier Part Number 1: 277-1667-ND
footprint PHOENIX_1935161
pins: 0 -, 1 +

## TMP102AQDRLRQ1
designator U5
SENSOR DIGITAL -40C-125C 6SOT; Manufacturer: Texas Instruments; Output Type: I2C,Digital; Operating Supply Voltage: 3.6V; Quiescent Current: 10uA; Interface: I2C,SMBus,2-Wire; Resolution: 11b; Supplier 1: Digi-Key; Manufacturer Part Number: TMP102AQDRLRQ1; RoHS: Yes; Category: Temperature and Humidity Sensors; Stock 1: 4768; Pricing 1: 1=1.92000, 5=1.81600, 10=1.55700, 25=1.24560, 50=1.14180, 100=1.03800, 500=0.90826, 1000=0.80445 (USD); Mount: Surface Mount; Case/Package: SOT-563; Number of Pins: 6; Min Operating Temperature: -40°C; Max Operating Temperature: 125°C; Packaging: Tape and Reel; Lead Free: Lead Free; ComponentLink1URL: http://www.ti.com/general/docs/lit/getliterature.tsp?genericPartNumber=TMP102-Q1&&fileType=pdf&src-supplier=Avnet; ComponentLink1Description: http://www.ti.com/general/docs/lit/getliterature.tsp?genericPartNumber=TMP102-Q1&&fileType=pdf&src-supplier=Avnet; ComponentLink2URL: http://www.ti.com/lit/gpn/tmp102-q1?src-supplier=Mouser; ComponentLink2Description: http://www.ti.com/lit/gpn/tmp102-q1?src-supplier=Mouser; ComponentLink3URL: http://www.ti.com/general/docs/suppproductinfo.tsp?distId=10&gotoUrl=http%3A%2F%2Fwww.ti.com%2Flit%2Fgpn%2Ftmp102-q1&src-supplier=Digi-Key; ComponentLink3Description: http://www.ti.com/general/docs/suppproductinfo.tsp?distId=10&gotoUrl=http%3A%2F%2Fwww.ti.com%2Flit%2Fgpn%2Ftmp102-q1&src-supplier=Digi-Key; Supplier Part Number 1: 296-40676-1-ND
footprint SOP6
pins: 1 SCL (power), 2 GND (power), 3 ALERT (power), 4 ADD0 (power), 5 V+ (power), 6 SDA (power)

## YellowLED
designator D4
Led Yellow Clear 0603 SMD; Manufacturer: Inolux; Manufacturer Part Number: IN-S63AT5Y; Lens Style: Flat; Luminous Intensity: 23mcd; Forward Voltage: 2V; Test Current: 5mA; Viewing Angle: 120°; Dominant Wavelength: 589nm; Lens Size: 0.8mm; Supplier 1: Digi-Key; RoHS: No; Category: LEDs; Stock 1: 6149; Pricing 1: 1=0.32000, 10=0.23200, 100=0.10970, 500=0.07314, 1000=0.05729 (USD); Mount: Surface Mount; Case/Package: 0603; Color: Yellow; Lens Color: Clear; Case Code (Imperial): 0603; Case Code (Metric): 1608; Packaging: Tape and Reel; Lens Transparency: Clear; Length: 1.6mm; Height: 0.39mm; Width: 0.8mm; ComponentLink1URL: http://www.inolux-corp.com/datasheet/SMDLED/Mono%20Color%20Top%20View/IN-S63AT%20Series_V1.1.pdf?src-supplier=Digi-Key; ComponentLink1Description: http://www.inolux-corp.com/datasheet/SMDLED/Mono%20Color%20Top%20View/IN-S63AT%20Series_V1.1.pdf?src-supplier=Digi-Key; Supplier Part Number 1: 1830-1066-1-ND
footprint LED
pins: 1 A, 2 K